# Altium footprint library Footprint Library.PcbLib: 53 footprints (part 2 of 4)
Each footprint in its own frame and in the unit in brackets; x right, y up, seen from the top. Pads: shape width x height; smd on the part's side, far side on the other; paste and mask are expansions set on the pad; w line width, h text height; cw(c..) or ccw(c..) is an arc to the next point about the centre after c.
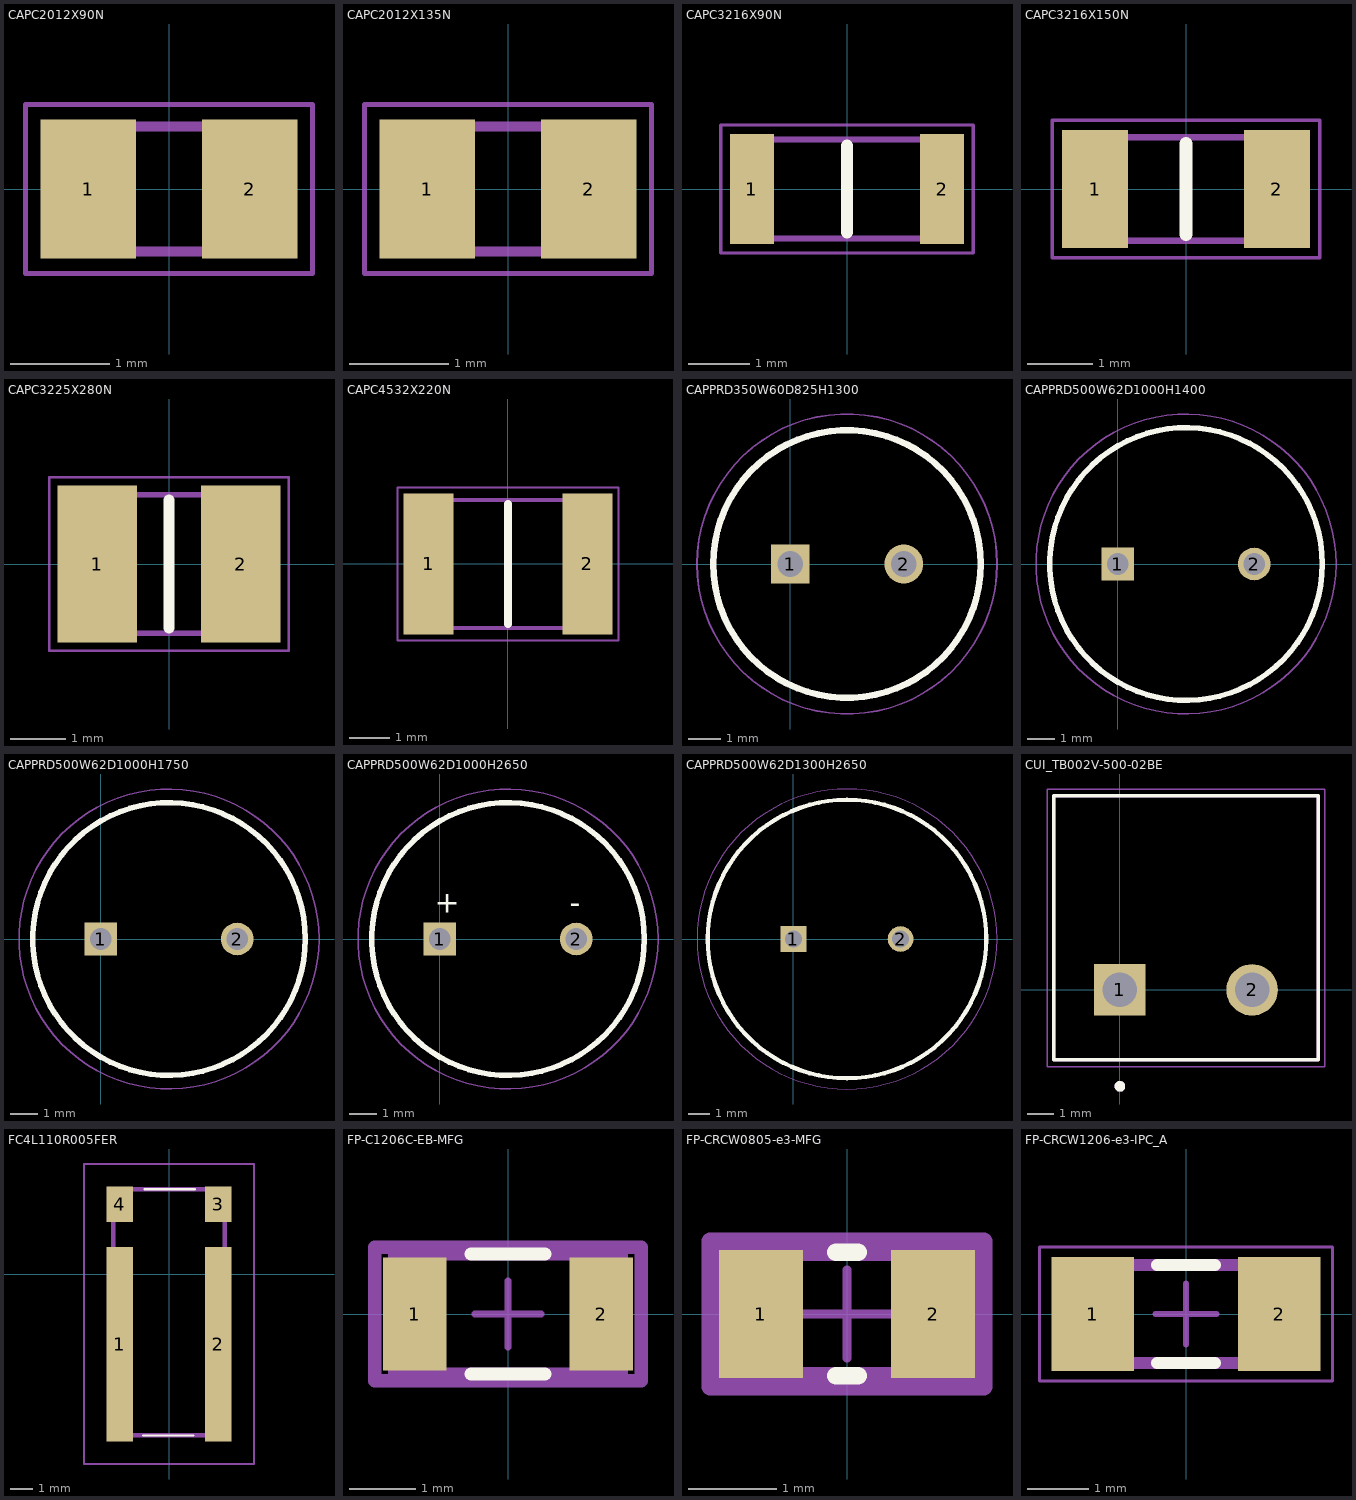
[diagram p1: the footprints below, top view; thin cyan lines are the x and y axes]

## CAPC2012X90N [mm]
pads (2):
  rect 0.96x1.39 smd: 1(-0.81,0) 2(0.81,0)
Mechanical 13:
  lines w0.1: -1,-0.625 1,-0.625 1,0.625 -1,0.625 -1,-0.625
Mechanical 15:
  lines w0.05: -1.44,-0.85 1.44,-0.85 1.44,0.85 -1.44,0.85 -1.44,-0.85
3D body "885012207098.stp": height 0.9, standoff 0, extent -1,-0.625 1,0.625

## CAPC2012X135N [mm]
pads (2):
  rect 0.96x1.39 smd: 1(-0.81,0) 2(0.81,0)
Mechanical 13:
  lines w0.1: -1,-0.625 1,-0.625 1,0.625 -1,0.625 -1,-0.625
Mechanical 15:
  lines w0.05: -1.44,-0.85 1.44,-0.85 1.44,0.85 -1.44,0.85 -1.44,-0.85
3D body "885012207103.stp": height 1.35, standoff 0, extent -1,-0.625 1,0.625

## CAPC3216X90N [mm]
pads (2):
  rect 0.71x1.78 smd: 1(-1.54,0) 2(1.54,0)
Top Overlay:
  lines w0.2: 0,-0.7 0,0.7
Mechanical 13:
  lines w0.1: -1.6,-0.8 -1.6,0.8 1.6,0.8 1.6,-0.8 -1.6,-0.8
Mechanical 15:
  lines w0.05: -2.045,-1.04 -2.045,1.04 2.045,1.04 2.045,-1.04 -2.045,-1.04
3D body "885012208087.stp": height 0.9, standoff 0, extent -1.6,-0.8 1.6,0.8

## CAPC3216X150N [mm]
pads (2):
  rect 1.02x1.82 smd: 1(-1.4,0) 2(1.4,0)
Top Overlay:
  lines w0.2: 0,-0.7 0,0.7
Mechanical 13:
  lines w0.1: -1.6,-0.8 1.6,-0.8 1.6,0.8 -1.6,0.8 -1.6,-0.8
Mechanical 15:
  lines w0.05: -2.06,-1.06 2.06,-1.06 2.06,1.06 -2.06,1.06 -2.06,-1.06
3D body "C1206C471J1GAC.stp": height 1.5, standoff 0, extent -1.6,-0.8 1.6,0.8

## CAPC3225X280N [mm]
pads (2):
  rect 1.43x2.82 smd: 1(-1.29,0) 2(1.29,0)
Top Overlay:
  lines w0.2: 0,-1.15 0,1.15
Mechanical 13:
  lines w0.1: -1.6,-1.25 1.6,-1.25 1.6,1.25 -1.6,1.25 -1.6,-1.25
Mechanical 15:
  lines w0.05: -2.155,-1.56 2.155,-1.56 2.155,1.56 -2.155,1.56 -2.155,-1.56
3D body "885012209048.stp": height 2.8, standoff 0, extent -1.6,-1.25 1.6,1.25

## CAPC4532X220N [mm]
pads (2):
  rect 1.25x3.52 smd: 1(-1.98,0) 2(1.98,0)
Top Overlay:
  lines w0.2: 0,-1.5 0,1.5
Mechanical 13:
  lines w0.1: -2.25,-1.6 -2.25,1.6 2.25,1.6 2.25,-1.6 -2.25,-1.6
Mechanical 15:
  lines w0.05: -2.755,-1.91 -2.755,1.91 2.755,1.91 2.755,-1.91 -2.755,-1.91
3D body "C1812C104JAGACAUTO.stp": height 2.2, standoff 0, extent -2.25,-1.6 2.25,1.6

## CAPPRD350W60D825H1300 [mm]
pads (2):
  rect 1.2x1.2 hole 0.8: 1(0,0)
  round 1.2 hole 0.8: 2(3.5,0)
Top Overlay:
  circle w0.2: c1.75,0 r4.125
Mechanical 13:
  circle w0.1: c1.75,0 r4.125
Mechanical 15:
  circle w0.05: c1.75,0 r4.625
3D body "APSG160ELL561MHB5J.stp": height 13, standoff -10, extent -2.5,-4.25 6,4.25

## CAPPRD500W62D1000H1400 [mm]
pads (2):
  rect 1.2x1.2 hole 0.8: 1(0,0)
  round 1.2 hole 0.8: 2(5,0)
Top Overlay:
  circle w0.2: c2.5,0 r5
Mechanical 13:
  circle w0.1: c2.5,0 r5
Mechanical 15:
  circle w0.05: c2.5,0 r5.5
3D body "860020675020.stp": height 14, standoff -10, extent -2.75,-5.247 7.75,5.247

## CAPPRD500W62D1000H1750 [mm]
pads (2):
  rect 1.2x1.2 hole 0.8: 1(0,0)
  round 1.2 hole 0.8: 2(5,0)
Top Overlay:
  circle w0.2: c2.5,0 r5
Mechanical 13:
  circle w0.1: c2.5,0 r5
Mechanical 15:
  circle w0.05: c2.5,0 r5.5
3D body "860160675026.stp": height 17.5, standoff -10, extent -2.75,-5.247 7.75,5.247

## CAPPRD500W62D1000H2650 [mm]
pads (2):
  rect 1.2x1.2 hole 0.8: 1(0,0)
  round 1.2 hole 0.8: 2(5,0)
Top Overlay:
  circle w0.2: c2.5,0 r5
  text "+" at -0.181,0.956 h0.8
  text "-" at 4.772,0.943 h0.8
Mechanical 13:
  circle w0.1: c2.5,0 r5
Mechanical 15:
  circle w0.05: c2.5,0 r5.5
3D body "860040775010.stp": height 26.5, standoff -10, extent -2.75,-5.25 7.75,5.25

## CAPPRD500W62D1300H2650 [mm]
pads (2):
  rect 1.2x1.2 hole 0.8: 1(0,0)
  round 1.2 hole 0.8: 2(5,0)
Top Overlay:
  circle w0.2: c2.5,0 r6.5
Mechanical 13:
  circle w0.1: c2.5,0 r6.5
Mechanical 15:
  circle w0.05: c2.5,0 r7
3D body "860160578032.stp": height 26.5, standoff -10, extent -4.25,-6.75 9.25,6.75

## CUI_TB002V-500-02BE [mm]
pads (2):
  rect 1.95x1.95 hole 1.3: 1(0,0)
  round 1.95 hole 1.3: 2(5,0)
Top Overlay:
  circle w0.2: c0,-3.65 r0.1
  lines w0.127: -2.5,-2.65 7.5,-2.65 7.5,7.35 -2.5,7.35 -2.5,-2.65
Mechanical 13:
  circle w0.2: c0,-3.65 r0.1
  lines w0.127: -2.5,-2.65 7.5,-2.65 7.5,7.35 -2.5,7.35 -2.5,-2.65
Mechanical 15:
  lines w0.05: -2.75,-2.9 -2.75,7.6 7.75,7.6 7.75,-2.9 -2.75,-2.9
3D body "CUI_DEVICES_TB002V-500-02BE.step": height 4.45, standoff -7.75, extent -3,-2.65 7.5,7.35

## FC4L110R005FER [mm]
pads (4):
  rect 1.2x8.7 smd: 1(-2.2,-3.125) 2(2.2,-3.125)
  rect 1.2x1.6 smd: 3(2.2,3.125) 4(-2.2,3.125)
Top Overlay:
  lines w0.1: -1.15,-7.2 1.1,-7.2 ; -1.1,3.8 1.15,3.8
Mechanical 13:
  lines w0.2: -2.5,-7.2 2.5,-7.2 2.5,3.8 -2.5,3.8 -2.5,-7.2
Mechanical 15:
  lines w0.1: -3.8,-8.475 3.8,-8.475 3.8,4.925 -3.8,4.925 -3.8,-8.475
3D body "FC4L110R005FER.stp": height 0.8, standoff 0, extent -2.68,-7.355 2.68,3.805

## FP-C1206C-EB-MFG [mm]
pads (2):
  rect 0.95x1.7 smd paste+0 mask+0: 1(-1.4,0) 2(1.4,0)
Top Overlay:
  lines w0.2: -0.55,-0.9 0.55,-0.9 ; -0.55,0.9 0.55,0.9
Mechanical 5:
  lines w0.2: -2,-1 2,-1 2,1 -2,1 -2,-1
  text ".Designator" at 0,0.188 h1
Mechanical 13:
  lines w0.2: -1.7,-0.9 1.7,-0.9 1.7,0.9 -1.7,0.9 -1.7,-0.9
Mechanical 15:
  lines w0.2: -2,-1 2,-1 2,1 -2,1 -2,-1
Mechanical 16:
  lines w0.1: -0.5,0 0.5,0 ; 0,-0.5 0,0.5
3D body "Cap_KEMET_C1206C472K4RACTU_eec.STEP": height 0.25, standoff 0, extent -2,-1 2,1

## FP-CRCW0805-e3-MFG [mm]
pads (2):
  rect 0.95x1.45 smd paste+0 mask+0: 1(-0.975,0) 2(0.975,0)
Top Overlay:
  lines w0.2: -0.125,-0.7 0.125,-0.7 ; -0.125,0.7 0.125,0.7
Mechanical 5:
  lines w0.2: -1.55,-0.825 1.55,-0.825 1.55,0.825 -1.55,0.825 -1.55,-0.825
  text ".Designator" at 0,0.188 h1
Mechanical 13:
  lines w0.2: -1.1,-0.7 1.1,-0.7 1.1,0.7 -1.1,0.7 -1.1,-0.7
Mechanical 15:
  lines w0.2: -1.55,-0.825 1.55,-0.825 1.55,0.825 -1.55,0.825 -1.55,-0.825
Mechanical 16:
  lines w0.1: -0.5,0 0.5,0 ; 0,-0.5 0,0.5
3D body "Res_Vishay_CRCW0805100KFKEA_eec.STEP": height 0.25, standoff 0, extent -1.55,-0.825 1.55,0.825

## FP-CRCW1206-e3-IPC_A [mm]
pads (2):
  rect 1.356x1.858 smd paste+0 mask+0: 1(-1.526,0) 2(1.526,0)
Top Overlay:
  lines w0.2: -0.473,-0.8 0.473,-0.8 ; -0.473,0.8 0.473,0.8
Mechanical 5:
  lines w0.05: -2.4,-1.1 2.4,-1.1 2.4,1.1 -2.4,1.1 -2.4,-1.1
  text ".Designator" at 0,0.188 h1
Mechanical 13:
  lines w0.2: -1.6,-0.8 -1.6,0.8 1.6,0.8 1.6,-0.8 -1.6,-0.8
Mechanical 15:
  lines w0.05: -2.4,-1.1 2.4,-1.1 2.4,1.1 -2.4,1.1 -2.4,-1.1
Mechanical 16:
  lines w0.1: -0.5,0 0.5,0 ; 0,-0.5 0,0.5
3D body "Res_Vishay_CRCW1206619RFKEB_eec.STEP": height 0.25, standoff 0, extent -2.704,-1.429 2.704,1.429